# Altium footprint library ARM_Libary_DIL.PcbLib: 37 footprints (part 2 of 3)
Each footprint in its own frame and in the unit in brackets; x right, y up, seen from the top. Pads: shape width x height; smd on the part's side, far side on the other; paste and mask are expansions set on the pad; w line width, h text height; cw(c..) or ccw(c..) is an arc to the next point about the centre after c.
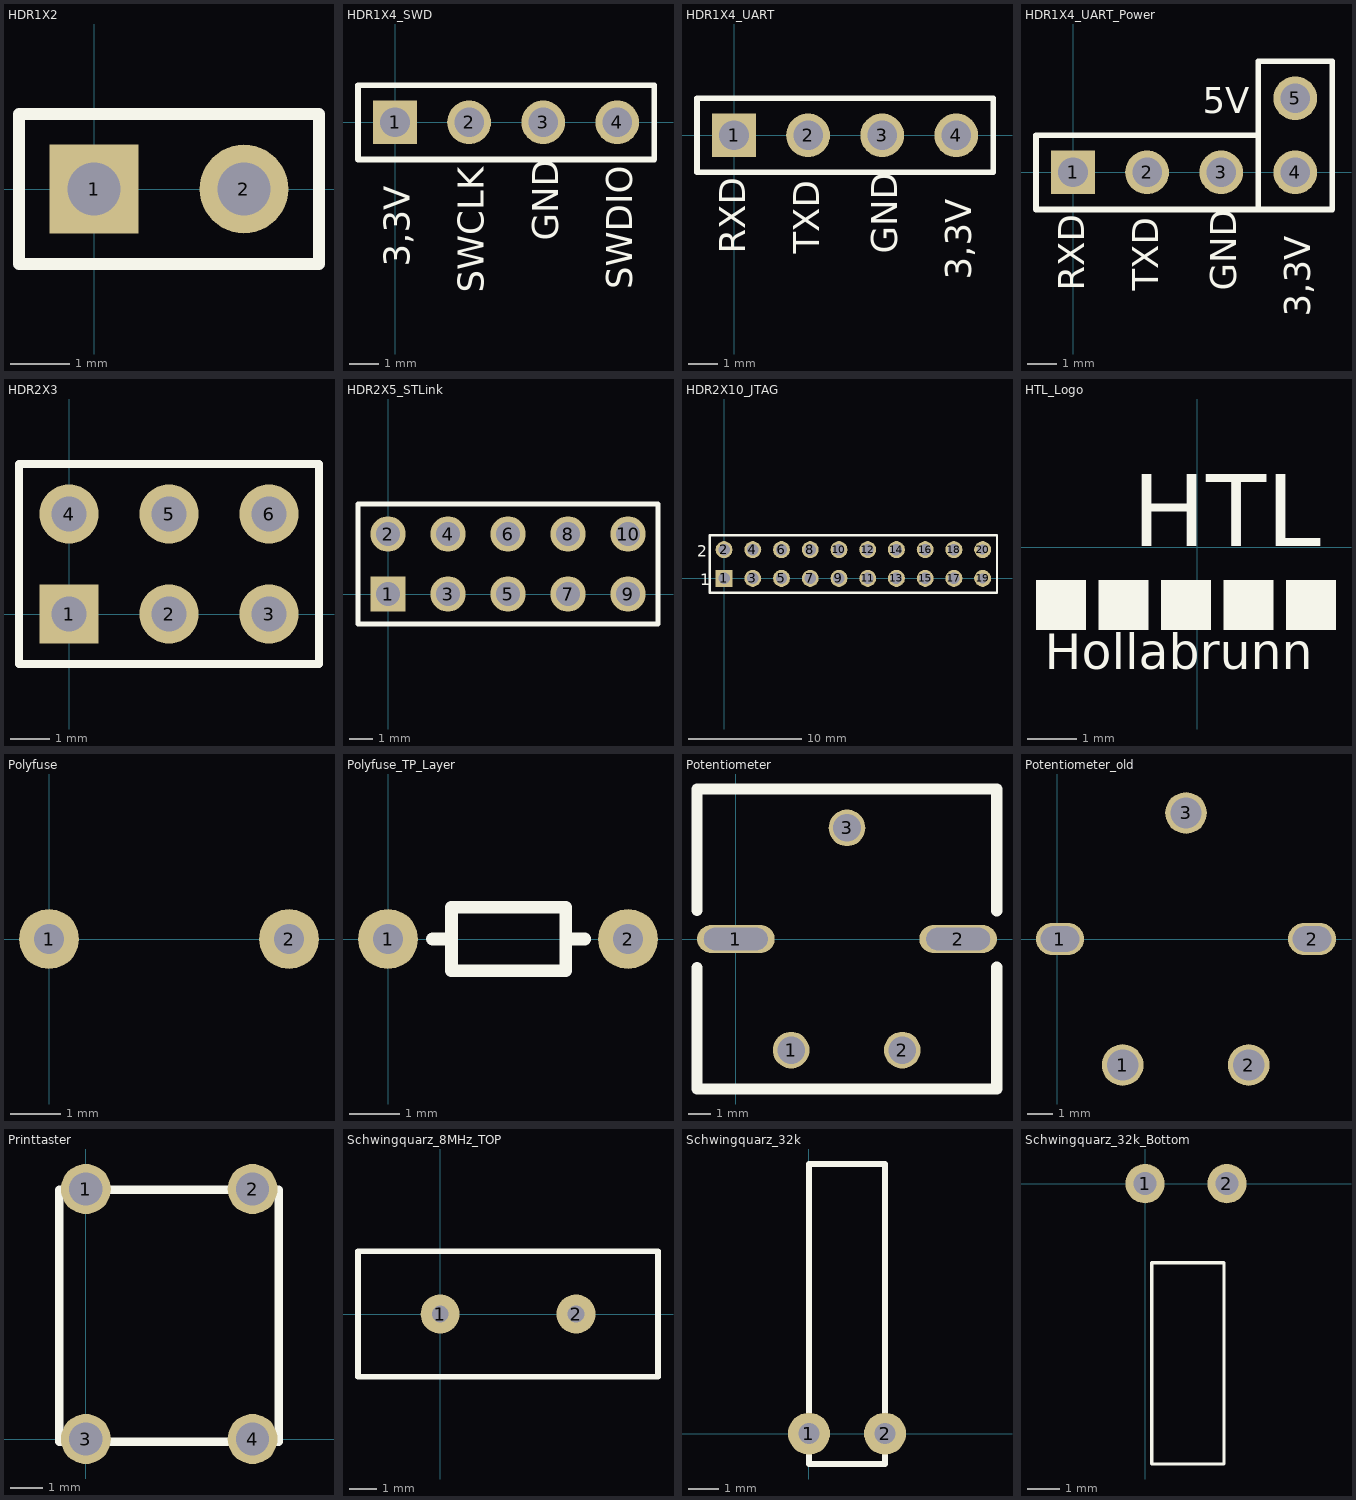
[diagram p1: the footprints below, top view; thin cyan lines are the x and y axes]

## HDR1X2 [mm]
pads (2):
  rect 1.5x1.5 hole 0.9: 1(0,0)
  round 1.5 hole 0.9: 2(2.54,0)
Top Overlay:
  lines w0.2: -1.27,-1.27 3.81,-1.27 3.81,1.27 -1.27,1.27 -1.27,-1.27

## HDR1X4_SWD [mm]
pads (4):
  rect 1.5x1.5 hole 1.016: 1(0,0)
  round 1.5 hole 1.016: 2(2.54,0) 3(5.08,0) 4(7.62,0)
Top Overlay:
  lines w0.2: -1.27,-1.27 -1.27,1.27 8.89,1.27 8.89,-1.27 -1.27,-1.27
  text "SWDIO" at 8.128,-5.715 h0.89
  text "GND" at 5.588,-4.064 h0.89
  text "SWCLK" at 3.048,-5.842 h0.89
  text "3,3V" at 0.508,-4.953 h0.89

## HDR1X4_UART [mm]
pads (4):
  rect 1.5x1.5 hole 1.016: 1(0,0)
  round 1.5 hole 1.016: 2(2.54,0) 3(5.08,0) 4(7.62,0)
Top Overlay:
  lines w0.2: -1.27,-1.27 8.89,-1.27 8.89,1.27 -1.27,1.27 -1.27,-1.27
  text "RXD" at 0.381,-4.064 h0.89
  text "TXD" at 2.921,-4.064 h0.89
  text "GND" at 5.588,-4.064 h0.89
  text "3,3V" at 8.128,-4.953 h0.89

## HDR1X4_UART_Power [mm]
pads (5):
  rect 1.5x1.5 hole 1.016: 1(0,0)
  round 1.5 hole 1.016: 2(2.54,0) 3(5.08,0) 4(7.62,0) 5(7.62,2.54)
Top Overlay:
  lines w0.2: 6.35,-1.27 -1.27,-1.27 -1.27,1.27 6.35,1.27 ; 6.35,-1.27 6.35,1.27 ; 6.35,-1.27 8.89,-1.27 8.89,3.81 6.35,3.81 6.35,1.27
  text "5V" at 4.445,2.032 h0.89
  text "3,3V" at 8.128,-4.953 h0.89
  text "GND" at 5.588,-4.064 h0.89
  text "TXD" at 2.921,-4.064 h0.89
  text "RXD" at 0.381,-4.064 h0.89

## HDR2X3 [mm] "Connector; Header; 3x2 Position"
pads (6):
  rect 1.5x1.5 hole 0.9: 1(0,0)
  round 1.5 hole 0.9: 2(2.54,0) 3(5.08,0) 4(0,2.54) 5(2.54,2.54) 6(5.08,2.54)
Top Overlay:
  lines w0.2: -1.27,-1.27 6.35,-1.27 6.35,3.81 -1.27,3.81 -1.27,-1.27

## HDR2X5_STLink [mm]
pads (10):
  rect 1.5x1.5 hole 1.016: 1(0,0)
  round 1.5 hole 1.016: 2(0,2.54) 3(2.54,0) 4(2.54,2.54) 5(5.08,0) 6(5.08,2.54) 7(7.62,0) 8(7.62,2.54) 9(10.16,0) 10(10.16,2.54)
Top Overlay:
  lines w0.2: -1.27,-1.27 0.635,-1.27 11.43,-1.27 11.43,3.81 0.635,3.81 -1.27,3.81 -1.27,-1.27

## HDR2X10_JTAG [mm]
pads (20):
  rect 1.5x1.5 hole 1.016: 1(0,0)
  round 1.5 hole 1.016: 2(0,2.54) 3(2.54,0) 4(2.54,2.54) 5(5.08,0) 6(5.08,2.54) 7(7.62,0) 8(7.62,2.54) 9(10.16,0) 10(10.16,2.54) 11(12.7,0) 12(12.7,2.54) 13(15.24,0) 14(15.24,2.54) 15(17.78,0) 16(17.78,2.54) 17(20.32,0) 18(20.32,2.54)
  round 1.5 hole 0.9: 19(22.86,0) 20(22.86,2.54)
Top Overlay:
  lines w0.2: -1.27,-1.27 -1.27,3.81 0.635,3.81 24.13,3.81 24.13,-1.27 0.635,-1.27 -1.27,-1.27
  text "2" at -2.39,1.897 h1.02
  text "1" at -2.09,-0.603 h1.02

## HTL_Logo [mm]
Top Overlay:
  rectangle: 1.803,-1.676 2.819,-0.66
  rectangle: 0.533,-1.676 1.549,-0.66
  rectangle: -0.737,-1.676 0.279,-0.66
  rectangle: -2.007,-1.676 -0.991,-0.66
  rectangle: -3.277,-1.676 -2.261,-0.66
  text "HTL" at -1.321,-0.457 h2.5
  text "Hollabrunn" at -3.099,-2.718 h1.25

## Polyfuse [mm]
pads (2):
  round 1.2 hole 0.6: 1(0,0) 2(4.8,0)

## Polyfuse_TP_Layer [mm]
pads (2):
  round 1.2 hole 0.6: 1(0,0) 2(4.8,0)
Top Overlay:
  lines w0.254: 0.889,0 1.27,0 ; 3.556,0 3.937,0 ; 1.27,0 1.27,-0.635 3.556,-0.635 3.556,0.635 1.27,0.635 1.27,0

## Potentiometer [mil] "Potentiometer"
pads (5):
  oval 137.8x50 hole 40 slot 113.19 at 0 deg: 1(0,0) 2(394,0)
  round 65 hole 49: 1(98,-197) 2(295,-197) 3(197,197)
Top Overlay:
  lines w20: -68.9,-51.1 -68.9,-265.75 462.6,-265.75 462.6,-50 ; -68.9,51.1 -68.9,265.75 344.49,265.75 462.6,265.75 462.6,50

## Potentiometer_old [mil]
pads (5):
  oval 75x50 hole 40 slot 60 at 0 deg: 1(4,0) 2(398,0)
  round 65 hole 49: 1(102,-197) 2(299,-197) 3(201,197)

## Printtaster [mil]
pads (4):
  round 60 hole 40: 1(0,300) 2(200,300) 3(0,0) 4(200,0)
Top Overlay:
  lines w10: -32,-3.5 231.5,-3.5 231.5,299 -32,299 -32,-3.5

## Schwingquarz_8MHz_TOP [mm]
pads (2):
  round 1.4 hole 0.6: 1(0,0) 2(4.88,0)
Top Overlay:
  lines w0.2: 7.823,-2.248 -2.95,-2.248 -2.95,0 -2.95,2.248 1.005,2.248 7.823,2.248 ; 7.823,-2.246 7.823,0 7.823,2.246

## Schwingquarz_32k [mm]
pads (2):
  round 1.4 hole 0.7: 1(0,0) 2(2.54,0)
Top Overlay:
  lines w0.2: 0,-1.016 2.54,-1.016 2.54,9 0,9 0,-1.016

## Schwingquarz_32k_Bottom [mm]
pads (2):
  round 1.2 hole 0.7: 1(0,0) 2(2.5,0)
Top Overlay:
  lines w0.1: 0.203,-8.56 2.413,-8.56 2.413,-2.413 0.203,-2.413 0.203,-8.56